# EAGLE library part LAUNCHPAD (library TI_launchpad)
MSP-EXP430G2 LaunchPad Booster Pack layouts. LAUNCHPAD: Full-size board LAUNCHPAD-50MM: 50x50mm board covering the button area LAUNCHPAD-50MM-LEFT: 50x50mm board leaving the button area open. Tall LaunchPad components marked on Reference for reference.
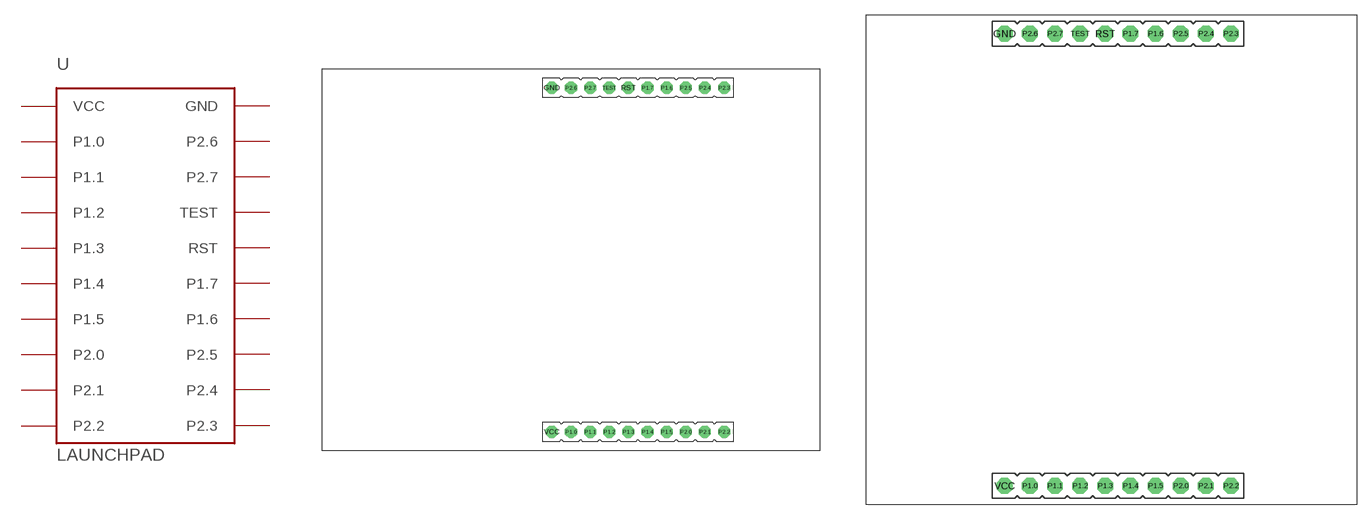
[diagram p0: symbol with the pads of LAUNCHPAD; footprints LAUNCHPAD, LAUNCHPAD-50MM]

Designator prefix -

## LAUNCHPAD  [LAUNCHPAD]
GND  GND  pwr
P1.0  P1.0
P1.1  P1.1
P1.2  P1.2
P1.3  P1.3
P1.4  P1.4
P1.5  P1.5
P1.6  P1.6
P1.7  P1.7
P2.0  P2.0
P2.1  P2.1
P2.2  P2.2
P2.3  P2.3
P2.4  P2.4
P2.5  P2.5
P2.6  P2.6
P2.7  P2.7
RST  RST
TEST  TEST
VCC  VCC  pwr

## LAUNCHPAD-50MM  [LAUNCHPAD-50MM]
Pads as for LAUNCHPAD

## LAUNCHPAD-50MM-LEFT  [LAUNCHPAD-50MM-LEFT]
Pads as for LAUNCHPAD

## Footprint LAUNCHPAD (pad centres in mm)
MSP-EXP430G2 LaunchPad Booster Pack layout.
drill 0.914 pad 1.6 octagon: GND 30.48,48.26; P1.0 33.02,2.54; P1.1 35.56,2.54; P1.2 38.1,2.54; P1.3 40.64,2.54; P1.4 43.18,2.54; P1.5 45.72,2.54; P1.6 45.72,48.26; P1.7 43.18,48.26; P2.0 48.26,2.54; P2.1 50.8,2.54; P2.2 53.34,2.54; P2.3 53.34,48.26; P2.4 50.8,48.26; P2.5 48.26,48.26; P2.6 33.02,48.26; P2.7 35.56,48.26; RST 40.64,48.26; TEST 38.1,48.26; VCC 30.48,2.54

## Footprint LAUNCHPAD-50MM (pad centres in mm)
50x50mm TI MSP-EXP430G2 LaunchPad Booster Pack layout, covering the button area.
drill 0.914 pad 1.6 octagon: GND 13.97,48.26; P1.0 16.51,2.54; P1.1 19.05,2.54; P1.2 21.59,2.54; P1.3 24.13,2.54; P1.4 26.67,2.54; P1.5 29.21,2.54; P1.6 29.21,48.26; P1.7 26.67,48.26; P2.0 31.75,2.54; P2.1 34.29,2.54; P2.2 36.83,2.54; P2.3 36.83,48.26; P2.4 34.29,48.26; P2.5 31.75,48.26; P2.6 16.51,48.26; P2.7 19.05,48.26; RST 24.13,48.26; TEST 21.59,48.26; VCC 13.97,2.54

## Footprint LAUNCHPAD-50MM-LEFT (pad centres in mm)
50x50mm TI MSP-EXP430G2 LaunchPad Booster Pack layout, covering the FET area.
drill 0.914 pad 1.6 octagon: GND 24.13,48.26; P1.0 26.67,2.54; P1.1 29.21,2.54; P1.2 31.75,2.54; P1.3 34.29,2.54; P1.4 36.83,2.54; P1.5 39.37,2.54; P1.6 39.37,48.26; P1.7 36.83,48.26; P2.0 41.91,2.54; P2.1 44.45,2.54; P2.2 46.99,2.54; P2.3 46.99,48.26; P2.4 44.45,48.26; P2.5 41.91,48.26; P2.6 26.67,48.26; P2.7 29.21,48.26; RST 34.29,48.26; TEST 31.75,48.26; VCC 24.13,2.54